# Altium footprint library Resistors_Footprint.PcbLib: 2 footprints
Each footprint in its own frame and in the unit in brackets; x right, y up, seen from the top. Pads: shape width x height; smd on the part's side, far side on the other; paste and mask are expansions set on the pad; w line width, h text height; cw(c..) or ccw(c..) is an arc to the next point about the centre after c.
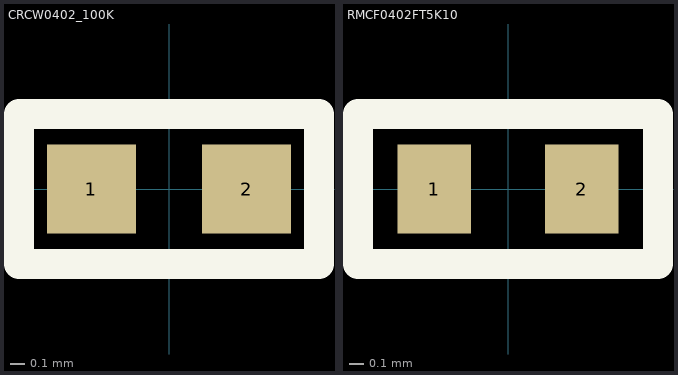
[diagram p0: the footprints below, top view; thin cyan lines are the x and y axes]

## CRCW0402_100K [mm]
pads (2):
  rect 0.6x0.6 smd mask-2539.97: 1(-0.525,0) 2(0.525,0)
Top Overlay:
  lines w0.2: -1.016,-0.508 -1.016,0.508 1.016,0.508 1.016,-0.508 -1.016,-0.508
Top Solder:
  region: -0.875,-0.35 -0.875,0.35 -0.175,0.35 -0.175,-0.35
  region: 0.175,-0.35 0.175,0.35 0.875,0.35 0.875,-0.35
Mechanical 1:
  text ".Designator" at 0.05,0.15 h0.3
3D body "User Library-0402CRCW.step": height 0.36, standoff 0, extent -0.5,-0.25 0.5,0.25

## RMCF0402FT5K10 [mm] "RES 5.1K OHM 1% 1/16W 0402"
pads (2):
  rect 0.5x0.6 smd: 1(-0.5,0) 2(0.5,0)
Top Overlay:
  lines w0.2: -1.016,-0.508 -1.016,0.508 1.016,0.508 1.016,-0.508 -1.016,-0.508
Mechanical 1:
  text ".Designator" at 0.1,0.323 h0.67
3D body "RMCF0402_stp.stp": height 0.3, standoff 0, extent -0.5,-0.254 0.5,0.246